# Altium schematic symbol library IC_Logic.SchLib: 7 symbols
Pins are listed as number, name and electrical type; pins without a type are passive.

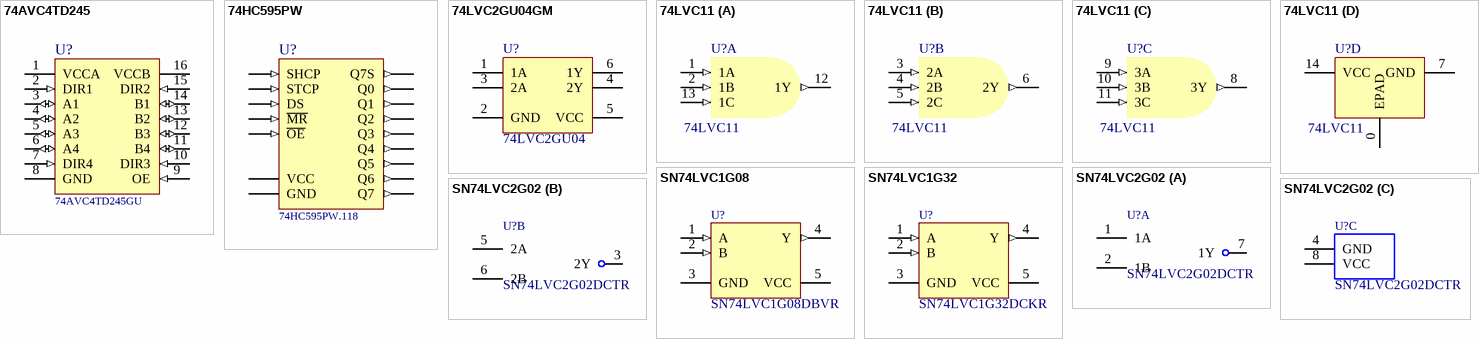
[diagram p0: symbols 74AVC4TD245 to SN74LVC2G02]

## 74AVC4TD245
designator U?, comment 74AVC4TD245GU
IC SHIFT REGISTER 8BIT; Manufacturer: Nexperia; Name: 74AVC4TD245GU; HelpURL: https://assets.nexperia.com/documents/data-sheet/74AVC4TD245.pdf; BOMString: 74AVC4TD245GU; Price10k: 0.43092; Supplier: https://www.digikey.com/product-detail/en/nexperia-usa-inc/74AVC4TD245GU115/1727-2610-1-ND/6576021; Price: 1.1
footprint QFN-16-0.4-1.8x2.6 (QFN, 16-Leads, Body 1,80x2,60mm, Pitch 0,40mm, IPC High Density)
pins: 1 VCCA (power), 2 DIR1 (in), 3 A1 (io), 4 A2 (io), 5 A3 (io), 6 A4 (io), 7 DIR4 (in), 8 GND, 9 OE (in), 10 DIR3 (in), 11 B4 (io), 12 B3 (io), 13 B2 (io), 14 B1 (io), 15 DIR2 (in), 16 VCCB (power)

## 74HC595PW
designator U?, comment 74HC595PW.118
IC SHIFT REGISTER 8BIT; Manufacturer: Nexperia; Name: 74HC595PW.118; HelpURL: https://assets.nexperia.com/documents/data-sheet/74HC_HCT595.pdf; BOMString: 74HC595PW.118; Price10k: 0.07931; Supplier: https://www.digikey.com/product-detail/en/nexperia-usa-inc/74HC595PW118/1727-3068-2-ND/946653; Price: 0.43
footprint TSSOP-16-0.65 (TSOP, 16-Leads, Body 5,00x4,40mm, Pitch 0,65mm, Thermal Pad 2,41x2,46mm, IPC Medium Density)
pins: 1 Q1 (out), 2 Q2 (out), 3 Q3 (out), 4 Q4 (out), 5 Q5 (out), 6 Q6 (out), 7 Q7 (out), 8 GND (power), 9 Q7S (out), 10 ~{MR} (in), 11 SHCP (in), 12 STCP (in), 13 ~{OE} (in), 14 DS (in), 15 Q0 (out), 16 VCC (power)

## 74LVC2GU04GM
designator U?, comment 74LVC2GU04
Dual unbuffered inverter; HelpURL: https://assets.nexperia.com/documents/data-sheet/74LVC2GU04_Q100.pdf; Name: 74LVC2GU04; BOMString: 74LVC2GU04
footprint SOT-891 (SON, 6-Leads, Body 1,00x1,00mm, Pitch 0,35mm, IPC High Density)
pins: 1 1A, 2 GND, 3 2A, 4 2Y, 5 VCC, 6 1Y

## 74LVC11
designator U?
Triple 3-input AND gate; HelpURL: http://www.nxp.com/documents/data_sheet/74LVC11.pdf
footprint QFN-14-0.5-2.5X3 (QFN, 14-Leads, Body 2,50x3,00mm, Pitch 0,50mm, Thermal Pad 1,00x1,50mm, IPC Medium Density)
part A pins: 1 1A (in), 2 1B (in), 12 1Y (out), 13 1C (in)
part B pins: 3 2A (in), 4 2B (in), 5 2C (in), 6 2Y (out)
part C pins: 8 3Y (out), 9 3A (in), 10 3B (in), 11 3C (in)
part D pins: 0 EPAD, 7 GND (power), 14 VCC (power)

## SN74LVC1G08
designator U?, comment SN74LVC1G08DBVR
Single 2-Input Positive-AND Gate; Manufacturer: TI; Name: SN74LVC1G08DBVR; BOMString: SN74LVC1G08DBVR; Supplier: https://www.chipdip.ru/product/sn74lvc1g08dbvr-2; HelpURL: https://www.ti.com/lit/ds/symlink/sn74lvc1g08.pdf
footprint SOT-323-5
footprint SOT-23-5
pins: 1 A (in), 2 B (in), 3 GND, 4 Y (out), 5 VCC

## SN74LVC1G32
designator U?, comment SN74LVC1G32DCKR
Single 2-Input Positive-OR Gate; Manufacturer: TI; Name: SN74LVC1G32DCKR; BOMString: SN74LVC1G32DCKR; Supplier: https://www.chipdip.ru/product/sn74lvc1g32dckr; HelpURL: https://www.ti.com/lit/ds/symlink/sn74lvc1g32.pdf?HQS=TI-null-null-digikeymode-df-pf-null-wwe&ts=1601564434156
footprint SOT-323-5
pins: 1 A (in), 2 B (in), 3 GND, 4 Y (out), 5 VCC

## SN74LVC2G02
designator U?, comment SN74LVC2G02DCTR
Dual 2-Input Positive-NOR Gate; Name: SN74LVC2G02DCTR; HelpURL: https://www.ti.com/lit/ds/symlink/sn74lvc2g02.pdf?HQS=TI-null-null-mousermode-df-pf-null-wwe&ts=1605009794529&ref_url=https%253A%252F%252Fru.mouser.com%252F; Supplier: https://www.electronshik.ru/item/TI/SN74LVC2G02DCTR; BOMString: SN74LVC2G02DCTR
footprint MSOP-8-0.65
part A pins: 1 1A, 2 1B, 7 1Y
part B pins: 3 2Y, 5 2A, 6 2B
part C pins: 4 GND, 8 VCC